# Altium footprint library SMD Capacitor.PcbLib: 10 footprints
Each footprint in its own frame and in the unit in brackets; x right, y up, seen from the top. Pads: shape width x height; smd on the part's side, far side on the other; paste and mask are expansions set on the pad; w line width, h text height; cw(c..) or ccw(c..) is an arc to the next point about the centre after c.
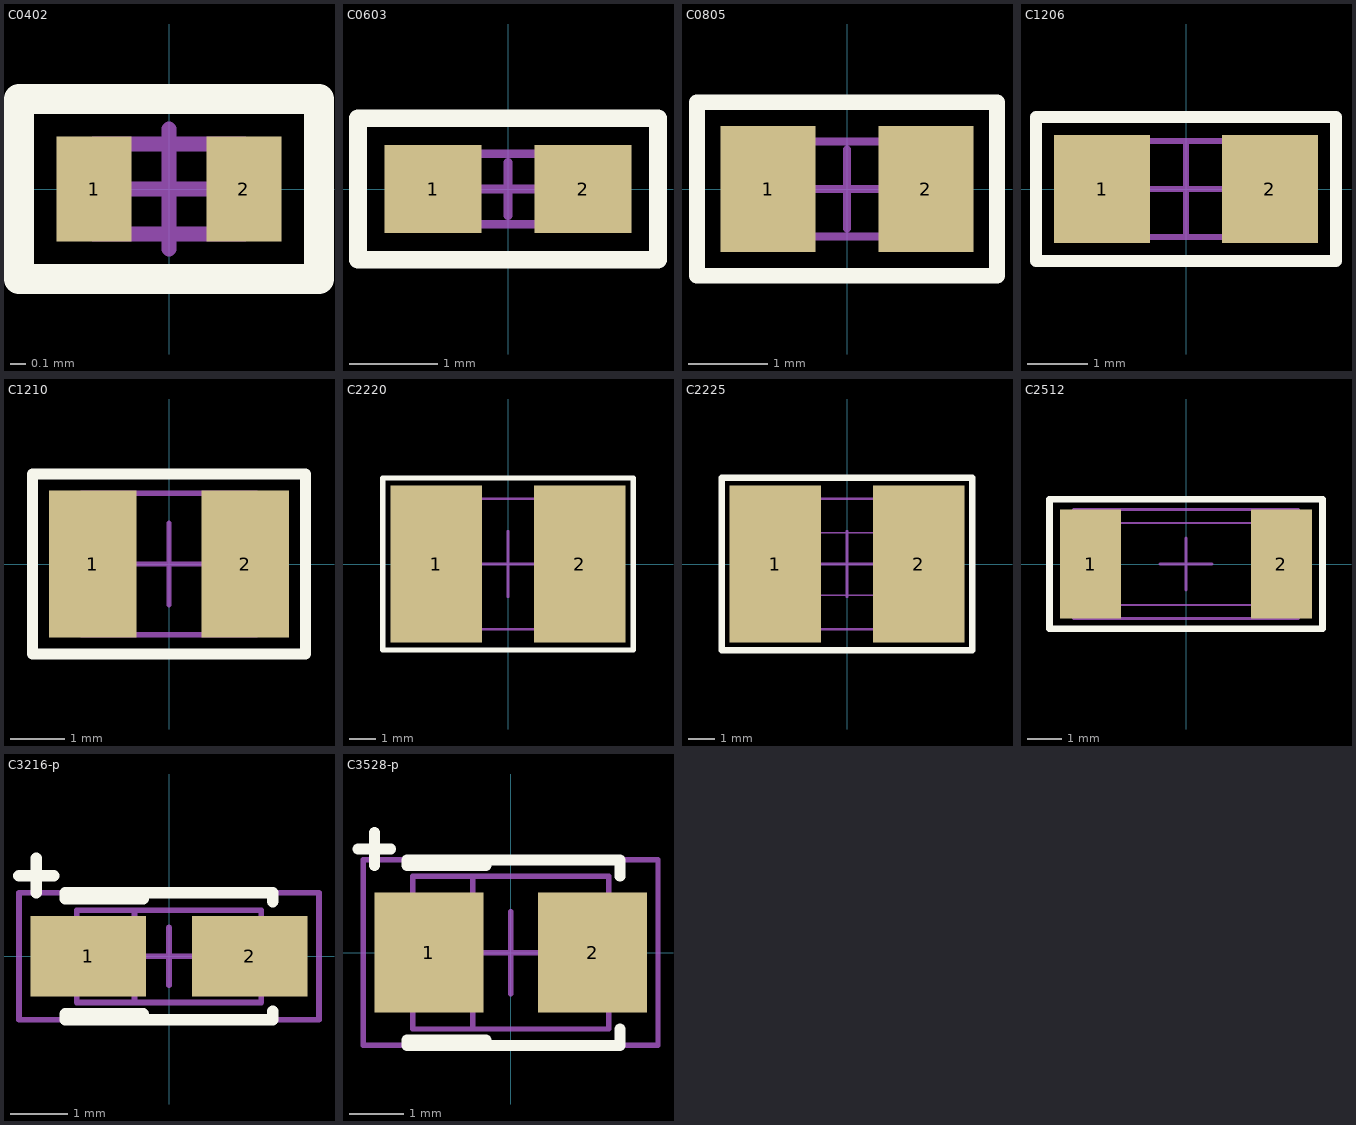
[diagram p0: the footprints below, top view; thin cyan lines are the x and y axes]

## C0402 [mm] "1005M"
height 0.4
pads (2):
  rect 0.5x0.7 smd: 1(-0.5,0) 2(0.5,0)
Top Overlay:
  lines w0.2: -1,-0.6 -1,0.6 1,0.6 1,-0.6 -1,-0.6
Mechanical 7:
  lines w0.05: -1,-0.6 -1,0.6 1,0.6 1,-0.6 -1,-0.6
Mechanical 13:
  lines w0.1: -0.5,-0.3 -0.5,0.3 0.5,0.3 0.5,-0.3 -0.5,-0.3
Mechanical 15:
  lines w0.1: -0.4,0 0.4,0 ; 0,-0.4 0,0.4 ; -1,-0.6 1,-0.6 1,0.6 -1,0.6 -1,-0.6
3D body "User Library-CAPC1005X06.step": height 0.61, standoff 0.01, extent -0.5,-0.25 0.5,0.25

## C0603 [mm] "1608M"
height 0.6
pads (2):
  rect 1.1x1 smd: 1(-0.85,0) 2(0.85,0)
Top Overlay:
  lines w0.2: -1.7,-0.8 1.7,-0.8 1.7,0.8 -1.7,0.8 -1.7,-0.8
Mechanical 7:
  lines w0.05: -1.7,-0.8 1.7,-0.8 1.7,0.8 -1.7,0.8 -1.7,-0.8
Mechanical 13:
  lines w0.1: -0.8,-0.4 -0.8,0.4 0.8,0.4 0.8,-0.4 -0.8,-0.4
Mechanical 15:
  lines w0.1: -0.3,0 0.3,0 ; 0,-0.3 0,0.3 ; -1.7,-0.8 1.7,-0.8 1.7,0.8 -1.7,0.8 -1.7,-0.8
3D body "User Library-CAPC1608X09.step": height 0.91, standoff 0.01, extent -0.8,-0.4 0.8,0.4

## C0805 [mm] "2012M"
height 1
pads (2):
  rect 1.2x1.6 smd: 1(-1,0) 2(1,0)
Top Overlay:
  lines w0.2: -1.9,-1.1 1.9,-1.1 1.9,1.1 -1.9,1.1 -1.9,-1.1
Mechanical 7:
  lines w0.05: -1.9,-1.1 1.9,-1.1 1.9,1.1 -1.9,1.1 -1.9,-1.1
Mechanical 13:
  lines w0.1: -1,-0.6 -1,0.6 1,0.6 1,-0.6 -1,-0.6
Mechanical 15:
  lines w0.1: -0.5,0 0.5,0 ; 0,-0.5 0,0.5 ; -1.9,-1.1 -1.9,1.1 1.9,1.1 1.9,-1.1 -1.9,-1.1
3D body "User Library-CAPC2013X10.step": height 1.01, standoff 0.01, extent -1,-0.625 1,0.625

## C1206 [mm] "3216M"
height 1.6
pads (2):
  rect 1.6x1.8 smd: 1(-1.4,0) 2(1.4,0)
Top Overlay:
  lines w0.2: -2.5,-1.2 -2.5,1.2 2.5,1.2 2.5,-1.2 -2.5,-1.2
Mechanical 7:
  lines w0.05: -2.5,-1.2 -2.5,1.2 2.5,1.2 2.5,-1.2 -2.5,-1.2
Mechanical 13:
  lines w0.1: -1.6,-0.8 -1.6,0.8 1.6,0.8 1.6,-0.8 -1.6,-0.8
Mechanical 15:
  lines w0.1: -0.75,0 0.75,0 ; 0,-0.75 0,0.75 ; -2.5,-1.2 2.5,-1.2 2.5,1.2 -2.5,1.2 -2.5,-1.2
3D body "User Library-CAPC3216X10.step": height 1.01, standoff 0.01, extent -1.6,-0.8 1.6,0.8

## C1210 [mm] "3225M"
height 1.8
pads (2):
  rect 1.6x2.7 smd: 1(-1.4,0) 2(1.4,0)
Top Overlay:
  lines w0.2: -2.5,-1.65 2.5,-1.65 2.5,1.65 -2.5,1.65 -2.5,-1.65
Mechanical 7:
  lines w0.05: -2.5,-1.65 2.5,-1.65 2.5,1.65 -2.5,1.65 -2.5,-1.65
Mechanical 13:
  lines w0.1: -1.6,-1.3 -1.6,1.3 1.6,1.3 1.6,-1.3 -1.6,-1.3
Mechanical 15:
  lines w0.1: -0.75,0 0.75,0 ; 0,-0.75 0,0.75 ; -2.5,-1.65 2.5,-1.65 2.5,1.65 -2.5,1.65 -2.5,-1.65
3D body "User Library-CAPC3225X10.step": height 1.01, standoff 0.01, extent -1.6,-1.25 1.6,1.25

## C2220 [mm] "5750M"
height 2.2
pads (2):
  rect 3.5x6 smd: 1(-2.75,0) 2(2.75,0)
Top Overlay:
  lines w0.2: -4.8,-3.3 -4.8,3.3 4.8,3.3 4.8,-3.3 -4.8,-3.3
Mechanical 7:
  lines w0.05: -4.8,-3.3 4.8,-3.3 4.8,3.3 -4.8,3.3 -4.8,-3.3
Mechanical 13:
  lines w0.1: -2.9,-2.5 -2.9,2.5 2.9,2.5 2.9,-2.5 -2.9,-2.5
Mechanical 15:
  lines w0.1: -1.25,0 1.25,0 ; 0,-1.25 0,1.25 ; -4.8,-3.3 -4.8,3.3 4.8,3.3 4.8,-3.3 -4.8,-3.3
3D body "User Library-CAPC5750X26.step": height 2.61, standoff 0.01, extent -2.85,-2.5 2.85,2.5

## C2225 [mm] "5764M"
height 2.2
pads (2):
  rect 3.5x6 smd: 1(-2.75,0) 2(2.75,0)
Top Overlay:
  lines w0.25: -4.8,-3.3 -4.8,3.3 4.8,3.3 4.8,-3.3 -4.8,-3.3
Mechanical 7:
  lines w0.05: -2.5,-1.2 -2.5,1.2 2.5,1.2 2.5,-1.2 -2.5,-1.2
Mechanical 13:
  lines w0.1: -2.9,-2.5 -2.9,2.5 2.9,2.5 2.9,-2.5 -2.9,-2.5
  text "Not Ready!" at -4.6,2.9 h3
Mechanical 15:
  lines w0.1: -1.25,0 1.25,0 ; 0,-1.25 0,1.25 ; -4.8,-3.3 -4.8,3.3 4.8,3.3 4.8,-3.3 -4.8,-3.3
3D body "User Library-CAPC5764X15.step": height 1.51, standoff 0.01, extent -2.85,-3.175 2.85,3.175

## C2512 [mm]
height 0.71
pads (2):
  rect 1.8x3.2 smd: 1(-2.8,0) 2(2.8,0)
Top Overlay:
  lines w0.2: -4,-1.9 -4,1.9 4,1.9 4,-1.9 -4,-1.9
Mechanical 7:
  lines w0.05: -2.5,-1.2 2.5,-1.2 2.5,1.2 -2.5,1.2 -2.5,-1.2
Mechanical 13:
  lines w0.1: -3.3,-1.6 3.3,-1.6 3.3,1.6 -3.3,1.6 -3.3,-1.6
  text "check" at -3.3,-0.6 h1.52
Mechanical 15:
  lines w0.1: -0.75,0 0.75,0 ; 0,-0.75 0,0.75 ; -4,-1.9 -4,1.9 4,1.9 4,-1.9 -4,-1.9
3D body: height 0.8, standoff 0, extent 2.7,-1.6 3.3,1.6
3D body: height 0.8, standoff 0, extent -3.3,-1.6 -2.7,1.6
3D body: height 0.8, standoff 0, extent -2.7,-1.6 2.7,1.6

## C3216-p [mm] "Type A"
height 1.6
pads (2):
  rect 2x1.4 smd: 1(-1.4,0) 2(1.4,0)
Top Overlay:
  lines w0.2: -2.6,1.4 -2,1.4 ; -2.3,1.1 -2.3,1.7 ; -0.45,-1 -1.8,-1 -1.8,-1.1 1.8,-1.1 1.8,-0.95 ; -0.45,1 -1.8,1 -1.8,1.1 1.8,1.1 1.8,0.95
Mechanical 7:
  lines w0.05: -2.6,-1.1 -2.6,1.1 2.6,1.1 2.6,-1.1 -2.6,-1.1
Mechanical 13:
  lines w0.1: -0.6,-0.8 -0.6,0.8 ; -1.6,-0.8 -1.6,0.8 1.6,0.8 1.6,-0.8 -1.6,-0.8
Mechanical 15:
  lines w0.1: -0.5,0 0.5,0 ; 0,-0.5 0,0.5 ; -2.6,-1.1 2.6,-1.1 2.6,1.1 -2.6,1.1 -2.6,-1.1
3D body "CASE_A.STEP": height 1.8, standoff 0, extent -1.6,-0.8 1.6,0.8

## C3528-p [mm] "Type B"
height 1.8
pads (2):
  rect 2x2.2 smd: 1(-1.5,0) 2(1.5,0)
Top Overlay:
  lines w0.2: -2.8,1.9 -2.2,1.9 ; -2.5,1.6 -2.5,2.2 ; -0.45,-1.6 -1.9,-1.6 -1.9,-1.7 2,-1.7 2,-1.4 ; -0.45,1.6 -1.9,1.6 -1.9,1.7 2,1.7 2,1.4
Mechanical 7:
  lines w0.05: -2.7,-1.7 -2.7,1.7 2.7,1.7 2.7,-1.7 -2.7,-1.7
Mechanical 13:
  lines w0.1: -0.7,-1.4 -0.7,1.4 ; -1.8,-1.4 -1.8,1.4 1.8,1.4 1.8,-1.4 -1.8,-1.4
Mechanical 15:
  lines w0.1: -0.75,0 0.75,0 ; 0,-0.75 0,0.75 ; -2.7,-1.7 -2.7,1.7 2.7,1.7 2.7,-1.7 -2.7,-1.7
3D body "CASE_B.STEP": height 2.1, standoff 0, extent -1.75,-1.4 1.75,1.4